# EAGLE library part TSL230RD (library awqua_eagle_library)
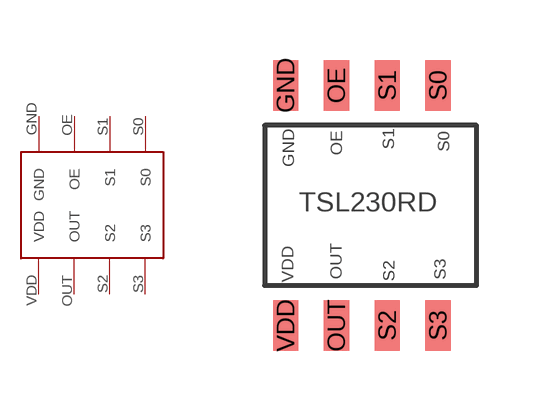
[diagram p2: symbol with the pads of TSL230RD; footprint TSL230RD]

Designator prefix -

## TSL230RDSMD  [TSL230RD]
GND  GND
OE  OE
OUT  OUT
S0  S0
S1  S1
S2  S2
S3  S3
VDD  VDD

## Footprint TSL230RD (pad centres in mm)
smd 0.635 x 1.27: GND 0.53,5; OE 1.8,5; OUT 1.8,-1; S0 4.34,5; S1 3.07,5; S2 3.07,-1; S3 4.34,-1; VDD 0.53,-1